# EAGLE library part SRAM_IS62WV1288DBLL (library Ilya_Teach)
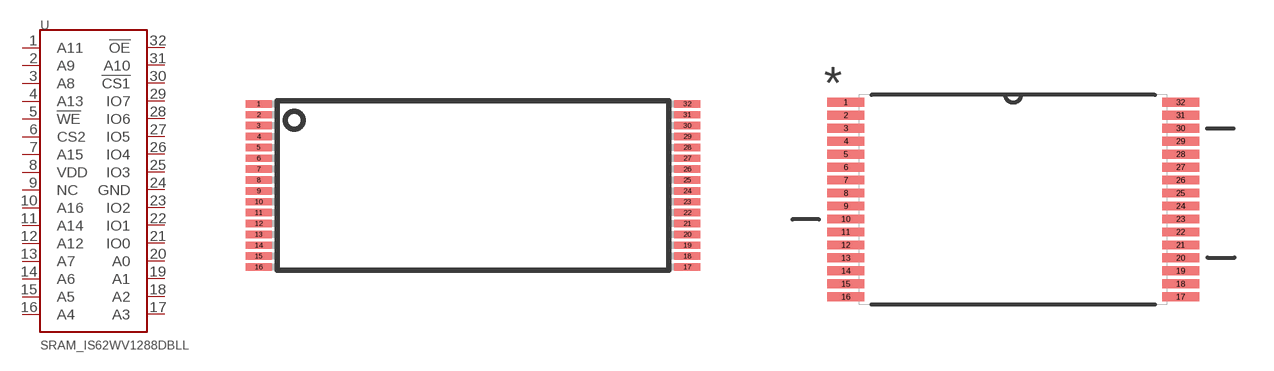
[diagram p11: symbol with the pads of TSOP32; footprints TSOP32, SOIC50P1340X125-32N]

Designator prefix -

## SRAM_IS62WV1288DBLLTSOP  [TSOP32]
1  A11
2  A9
3  A8
4  A13
5  !WE
6  CS2
7  A15
8  VDD
9  NC
10  A16
11  A14
12  A12
13  A7
14  A6
15  A5
16  A4
17  A3
18  A2
19  A1
20  A0
21  IO0
22  IO1
23  IO2
24  GND
25  IO3
26  IO4
27  IO5
28  IO6
29  IO7
30  !CS1
31  A10
32  !OE

## SRAM_IS62WV1288DBLLSTSOP  [SOIC50P1340X125-32N]
Pads as for TSOP32

## Footprint TSOP32 (pad centres in mm)
Thin Small Outline Package
smd 1.2 x 0.34: 1 -9.85,3.75; 2 -9.85,3.25; 3 -9.85,2.75; 4 -9.85,2.25; 5 -9.85,1.75; 6 -9.85,1.25; 7 -9.85,0.75; 8 -9.85,0.25; 9 -9.85,-0.25; 10 -9.85,-0.75; 11 -9.85,-1.25; 12 -9.85,-1.75; 13 -9.85,-2.25; 14 -9.85,-2.75; 15 -9.85,-3.25; 16 -9.85,-3.75; 17 9.85,-3.75; 18 9.85,-3.25; 19 9.85,-2.75; 20 9.85,-2.25; 21 9.85,-1.75; 22 9.85,-1.25; 23 9.85,-0.75; 24 9.85,-0.25; 25 9.85,0.25; 26 9.85,0.75; 27 9.85,1.25; 28 9.85,1.75; 29 9.85,2.25; 30 9.85,2.75; 31 9.85,3.25; 32 9.85,3.75

## Footprint SOIC50P1340X125-32N (pad centres in mm)
smd 1.422 x 0.34: 1 -6.452,3.75; 2 -6.452,3.25; 3 -6.452,2.75; 4 -6.452,2.25; 5 -6.452,1.75; 6 -6.452,1.25; 7 -6.452,0.75; 8 -6.452,0.25; 9 -6.452,-0.25; 10 -6.452,-0.75; 11 -6.452,-1.25; 12 -6.452,-1.75; 13 -6.452,-2.25; 14 -6.452,-2.75; 15 -6.452,-3.25; 16 -6.452,-3.75; 17 6.452,-3.75; 18 6.452,-3.25; 19 6.452,-2.75; 20 6.452,-2.25; 21 6.452,-1.75; 22 6.452,-1.25; 23 6.452,-0.75; 24 6.452,-0.25; 25 6.452,0.25; 26 6.452,0.75; 27 6.452,1.25; 28 6.452,1.75; 29 6.452,2.25; 30 6.452,2.75; 31 6.452,3.25; 32 6.452,3.75